# EAGLE library part CONN_08X2 (library pixel)
Multi connection point. Often used as Generic Header-pin footprint for 0.1 inch spaced/style header connections For AVR SPI programming port, see special device with nice symbol: "AVR_SPI_PROG_5x2.dev" You can populate with any combo of single row headers, but if you'd like an exact match, check these: 2x5 AVR ICSP Male Header <https://www.sparkfun.com/products/778> (PRT-00778) 2x5 Pin Shrouded Header <https://www.sparkfun.com/products/8506> (PRT-08506) On any of the 0.1 inch spaced packages, you can populate with these: Break Away Headers - Straight <https://www.sparkfun.com/products/116> (PRT-00116) Break Away Male Headers - Right Angle <https://www.sparkfun.com/products/553> (PRT-00553) Female Headers <https://www.sparkfun.com/products/115> (PRT-00115) Break Away Headers - Machine Pin <https://www.sparkfun.com/products/117> (PRT-00117) Break Away Female Headers - Swiss Machine Pin <https://www.sparkfun.com/products/743> (PRT-00743) Special note: the shrouded connector mates well with our 5x2 ribbon cables: 2x5 Pin IDC Ribbon Cable <https://www.sparkfun.com/products/8535> (PRT-08535)
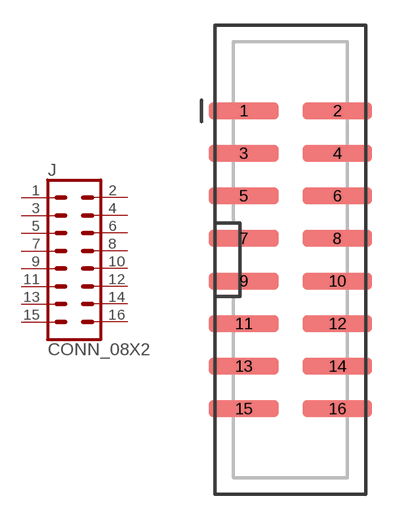
[diagram p22: symbol with the pads of 2X8-SHROUDED_SMD; footprint 2X8-SHROUDED_SMD]

Designator prefix J

## CONN_08X2SHD_SMD (PROD_ID: CONN-09508)  [2X8-SHROUDED_SMD]
1  1  pas
2  2  pas
3  3  pas
4  4  pas
5  5  pas
6  6  pas
7  7  pas
8  8  pas
9  9  pas
10  10  pas
11  11  pas
12  12  pas
13  13  pas
14  14  pas
15  15  pas
16  16  pas

## Footprint 2X8-SHROUDED_SMD (pad centres in mm)
Surface Mount - 2x5 Shrouded Header Specifications: Pin count:10 Pin pitch:0.1" Datasheet referenced for footprint <https://www.sparkfun.com/datasheets/Prototyping/Shrouded-10pin.pdf> Example device(s): CONN_05x2
smd 4.15 x 1: 1 -2.794,8.89; 2 2.794,8.89; 3 -2.794,6.35; 4 2.794,6.35; 5 -2.794,3.81; 6 2.794,3.81; 7 -2.794,1.27; 8 2.794,1.27; 9 -2.794,-1.27; 10 2.794,-1.27; 11 -2.794,-3.81; 12 2.794,-3.81; 13 -2.794,-6.35; 14 2.794,-6.35; 15 -2.794,-8.89; 16 2.794,-8.89